# Altium footprint library BasicosyConectores.PcbLib: 32 footprints (part 1 of 2)
Each footprint in its own frame and in the unit in brackets; x right, y up, seen from the top. Pads: shape width x height; smd on the part's side, far side on the other; paste and mask are expansions set on the pad; w line width, h text height; cw(c..) or ccw(c..) is an arc to the next point about the centre after c.
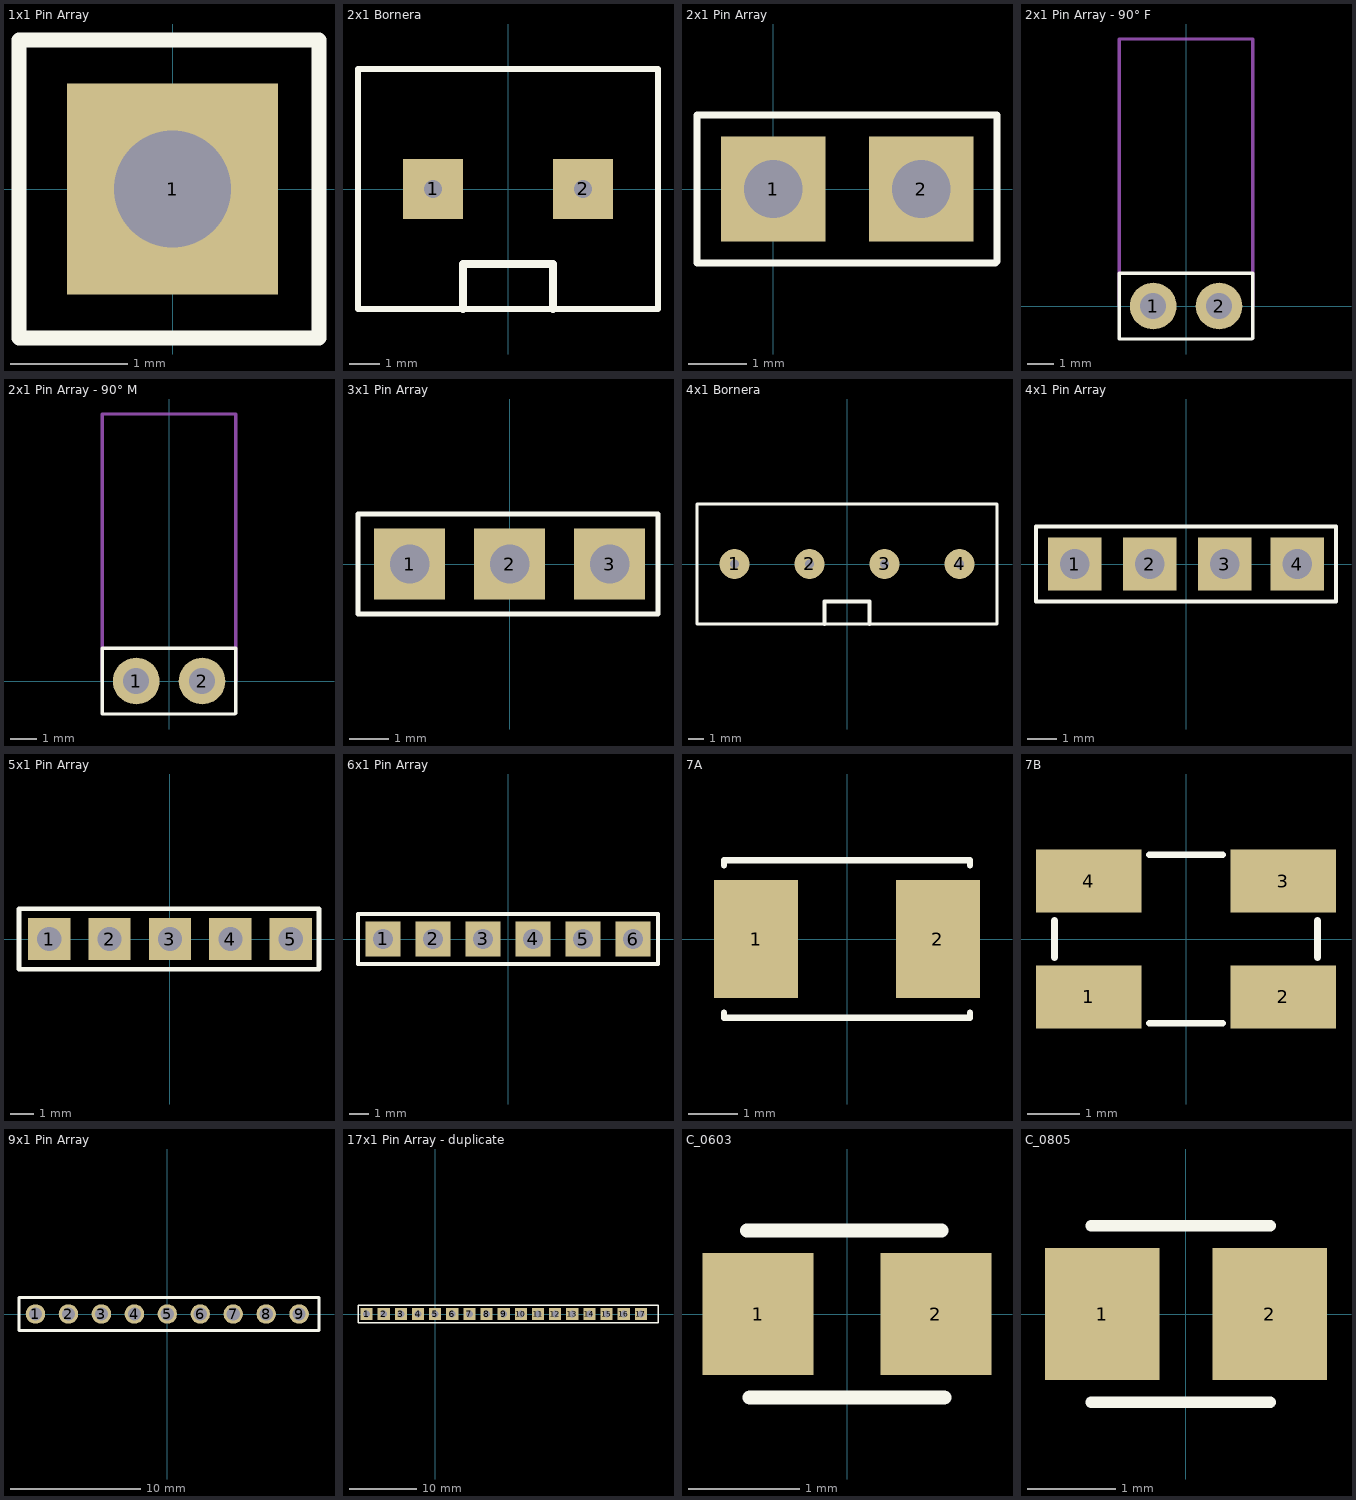
[diagram p0: the footprints below, top view; thin cyan lines are the x and y axes]

## 1x1 Pin Array [mm]
pads (1):
  rect 1.8x1.8 hole 1: 1(0,0)
Top Overlay:
  lines w0.127: -1.31,-1.27 1.25,-1.27 1.25,1.27 -1.31,1.27 -1.31,-1.27

## 2x1 Bornera [mm] "Bornera"
pads (2):
  rect 2x2 hole 0.6: 1(-2.5,0) 2(2.5,0)
Top Overlay:
  lines w0.2: -5,-4 -5,4 5,4 5,-4 -5,-4
  lines w0.254: -1.5,-4 -1.5,-2.5 1.5,-2.5 1.5,-4

## 2x1 Pin Array [mm]
pads (2):
  rect 1.8x1.8 hole 1: 1(0,0) 2(2.54,0)
Top Overlay:
  lines w0.127: 3.81,-1.27 3.74,-1.27 -1.31,-1.27 -1.31,1.27 3.84,1.27 3.84,-1.24

## 2x1 Pin Array - 90° F [mm] "2x1 Pin Array - Right Angle Female"
pads (2):
  round 1.8 hole 1: 1(-1.27,0) 2(1.27,0)
Top Overlay:
  lines w0.127: 2.54,-1.27 2.47,-1.27 -2.58,-1.27 -2.58,1.27 2.57,1.27 2.57,-1.24
Mechanical 3:
  lines w0.127: -2.58,0 -2.58,10.3 2.57,10.3 2.57,0

## 2x1 Pin Array - 90° M [mm] "2x1 Pin Array - Right Angle Male"
pads (2):
  round 1.8 hole 1: 1(-1.27,0) 2(1.27,0)
Top Overlay:
  lines w0.127: 2.54,-1.27 2.47,-1.27 -2.58,-1.27 -2.58,1.27 2.57,1.27 2.57,-1.24
Mechanical 3:
  lines w0.127: -2.58,0 -2.58,10.3 2.57,10.3 2.57,0

## 3x1 Pin Array [mm]
pads (3):
  rect 1.8x1.8 hole 1: 1(-2.54,0) 2(0,0) 3(2.54,0)
Top Overlay:
  lines w0.127: -3.85,-1.27 -3.85,1.27 3.77,1.27 3.77,-1.27 -3.85,-1.27

## 4x1 Bornera [mm] "Bornera"
pads (4):
  round 2 hole 0.6: 1(-7.5,0) 2(-2.5,0) 3(2.5,0) 4(7.5,0)
Top Overlay:
  lines w0.2: -10,-4 -10,4 10,4 10,-4 -10,-4
  lines w0.254: -1.5,-4 -1.5,-2.5 1.5,-2.5 1.5,-4

## 4x1 Pin Array [mm]
pads (4):
  rect 1.8x1.8 hole 1: 1(-3.77,0) 2(-1.23,0) 3(1.31,0) 4(3.77,0)
Top Overlay:
  lines w0.127: -5.08,-1.27 5.08,-1.27 5.08,1.27 2.54,1.27 -5.08,1.27 -5.08,-1.27

## 5x1 Pin Array [mil] "Tira de pines"
pads (5):
  rect 70x70 hole 40: 1(-200,0) 2(-100,0) 3(0,0) 4(100,0) 5(200,0)
Top Overlay:
  lines w7.87: -250,-50 246.85,-50 246.85,50 -250,50 -250,-50

## 6x1 Pin Array [mil] "Tira de pines"
pads (6):
  rect 70x70 hole 40: 1(-250,0) 2(-150,0) 3(-50,0) 4(50,0) 5(150,0) 6(250,0)
Top Overlay:
  lines w7.87: -300,-50 300,-50 300,50 -300,50 -300,-50

## 7A [mm] "Crystal SMD"
pads (2):
  rect 1.7x2.4 smd: 1(-1.85,0) 2(1.85,0)
Top Overlay:
  lines w0.127: -2.5,-1.5 -2.5,-1.6 2.5,-1.6 2.5,-1.5 ; -2.5,1.5 -2.5,1.6 2.5,1.6 2.5,1.5

## 7B [mm] "Crystal SMD"
pads (4):
  rect 2x1.2 smd: 1(-1.85,-1.1) 2(1.85,-1.1) 3(1.85,1.1) 4(-1.85,1.1)
Top Overlay:
  lines w0.127: -2.5,-0.35 -2.5,0.35 ; -0.7,-1.6 0.7,-1.6 ; -0.7,1.6 0.7,1.6 ; 2.5,-0.35 2.5,0.35

## 9x1 Pin Array [mm] "Tira de pines"
pads (9):
  round 1.5 hole 1.016: 1(-10.16,0) 2(-7.62,0) 3(-5.08,0) 4(-2.54,0) 5(0,0) 6(2.54,0) 7(5.08,0) 8(7.62,0) 9(10.16,0)
Top Overlay:
  lines w0.2: -11.43,-1.27 -11.43,1.27 11.69,1.27 11.69,-1.27 -11.43,-1.27

## 17x1 Pin Array - duplicate [mm] "Tira de pines"
pads (17):
  rect 1.8x1.8 hole 1.016: 1(-10.16,0) 2(-7.62,0) 3(-5.08,0) 4(-2.54,0) 5(0,0) 6(2.54,0) 7(5.08,0) 8(7.62,0) 9(10.16,0) 10(12.7,0) 11(15.24,0) 13(20.32,0) 14(22.86,0) 15(25.4,0) 16(27.94,0) 17(30.48,0)
  rect 1.8x1.8 hole 1: 12(17.78,0)
Top Overlay:
  lines w0.2: -11.43,-1.27 -11.43,1.27 33.02,1.27 33.02,-1.27 -11.43,-1.27

## C_0603 [mm]
pads (2):
  rect 1x1.1 smd: 1(-0.8,0) 2(0.8,0)
Top Overlay:
  lines w0.127: -0.9,0.75 0.85,0.75 ; -0.875,-0.75 0.875,-0.75

## C_0805 [mm]
pads (2):
  rect 1.3x1.5 smd: 1(-0.95,0) 2(0.95,0)
Top Overlay:
  lines w0.127: -1.077,-1 0.955,-1 ; -1.077,1 0.955,1